# EAGLE library part ADP1614 (library custom)
Boost Converter Regulator Adjustable 3A 2.5-5.5V Input, 2.5-20V Output 650kHz
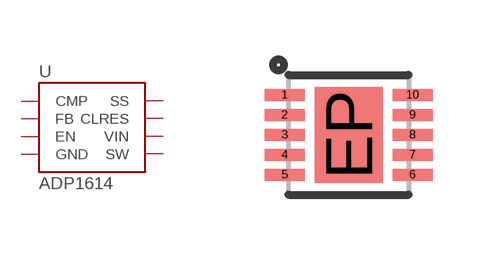
[diagram p86: symbol with the pads of 10-LFCSP; footprint 10-LFCSP]

Designator prefix U

## ADP1614  [10-LFCSP]
1  CMP
2  FB
3  EN
4  GND
5  GND
6  SW
7  SW
8  VIN
9  CLRES
10  SS
EP  GND

## Footprint 10-LFCSP (pad centres in mm)
smd 1 x 0.3: 1 -1.6,1; 2 -1.6,0.5; 3 -1.6,0; 4 -1.6,-0.5; 5 -1.6,-1; 6 1.6,-1; 7 1.6,-0.5; 8 1.6,0; 9 1.6,0.5; 10 1.6,1
smd 1.7 x 2.4: EP 0,0